# EAGLE library part L293DD (library trafshlib)
L293DD, Motor Driver, 4.5 36 V, 20-Pin SOIC Source: Datasheet <http://www.st.com/st-web-ui/static/active/en/resource/technical/document/datasheet/CD00000059.pdf>
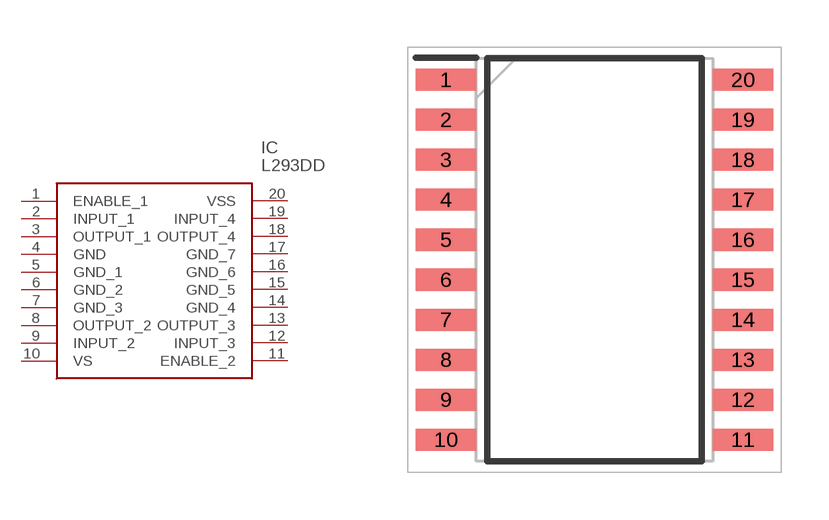
[diagram p13: symbol with the pads of SOIC127P1032X265-20N; footprint SOIC127P1032X265-20N]

Designator prefix IC

## L293DD (ALLIED_NUMBER: 70013700; ALLIED_PRICE-STOCK: http://www.alliedelec.com/stmicroelectronics-l293dd/70013700/; ARROW_PART_NUMBER: L293DD; ARROW_PRICE-STOCK: https://www.arrow.com/en/products/l293dd/stmicroelectronics; DESCRIPTION: L293DD, Motor Driver, 4.5 36 V, 20-Pin SOIC; HEIGHT: 2.65mm; MANUFACTURER_NAME: STMicroelectronics; MANUFACTURER_PART_NUMBER: L293DD; RS_PART_NUMBER: 7140625P; RS_PRICE-STOCK: http://uk.rs-online.com/web/p/products/7140625P)  [SOIC127P1032X265-20N]
1  ENABLE_1
2  INPUT_1  in
3  OUTPUT_1  out
4  GND  pwr
5  GND_1  pwr
6  GND_2  pwr
7  GND_3  pwr
8  OUTPUT_2  out
9  INPUT_2  in
10  VS
11  ENABLE_2
12  INPUT_3  in
13  OUTPUT_3  out
14  GND_4  pwr
15  GND_5  pwr
16  GND_6  pwr
17  GND_7  pwr
18  OUTPUT_4  out
19  INPUT_4  in
20  VSS  pwr

## Footprint SOIC127P1032X265-20N (pad centres in mm)
SO20
smd 1.925 x 0.7: 1 -4.712,5.715; 2 -4.712,4.445; 3 -4.712,3.175; 4 -4.712,1.905; 5 -4.712,0.635; 6 -4.712,-0.635; 7 -4.712,-1.905; 8 -4.712,-3.175; 9 -4.712,-4.445; 10 -4.712,-5.715; 11 4.712,-5.715; 12 4.712,-4.445; 13 4.712,-3.175; 14 4.712,-1.905; 15 4.712,-0.635; 16 4.712,0.635; 17 4.712,1.905; 18 4.712,3.175; 19 4.712,4.445; 20 4.712,5.715